# Altium integrated library Actel SmartFusion FPGA.IntLib: 379 symbols (part 1 of 2)
Pins are listed as number, name and electrical type; pins without a type are passive.

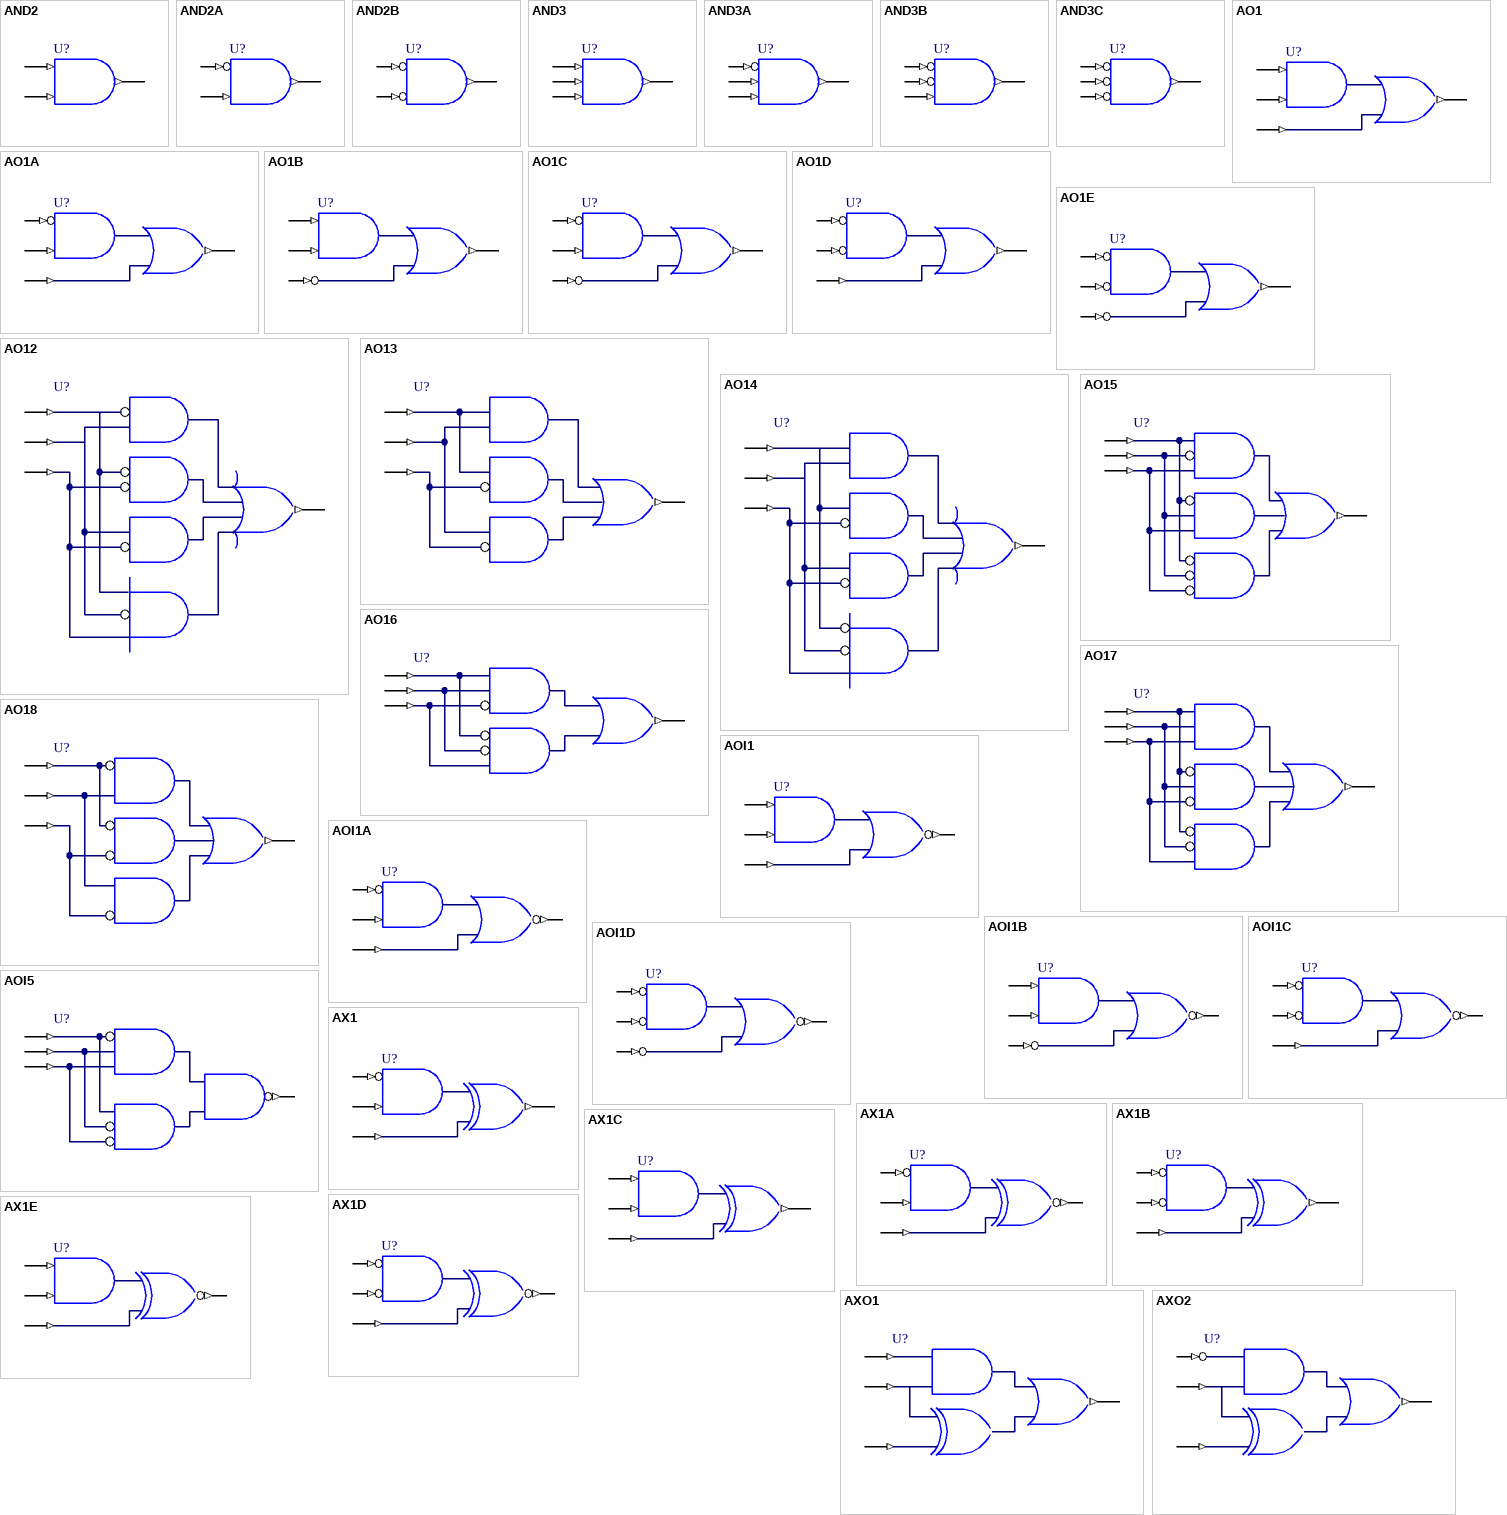
[diagram p0: symbols AND2 to AXO2]

## AND2
designator U?
2 Input AND; FPGAVendor: Actel; Published: 25-Oct-2005; Publisher: Altium Limited; HelpURL: http://www.actel.com/documents/pa3_libguide_ug.pdf
pins: A (in), B (in), Y (out)

## AND2A
designator U?
2 Input AND with Active Low A Input; FPGAVendor: Actel; Published: 25-Oct-2005; Publisher: Altium Limited; HelpURL: http://www.actel.com/documents/pa3_libguide_ug.pdf
pins: A (in), B (in), Y (out)

## AND2B
designator U?
2 Input AND with Active Low Inputs; FPGAVendor: Actel; Published: 25-Oct-2005; Publisher: Altium Limited; HelpURL: http://www.actel.com/documents/pa3_libguide_ug.pdf
pins: A (in), B (in), Y (out)

## AND3
designator U?
3 Input AND; FPGAVendor: Actel; Published: 25-Oct-2005; Publisher: Altium Limited; HelpURL: http://www.actel.com/documents/pa3_libguide_ug.pdf
pins: A (in), B (in), C (in), Y (out)

## AND3A
designator U?
3 Input AND with Active Low A Input; FPGAVendor: Actel; Published: 25-Oct-2005; Publisher: Altium Limited; HelpURL: http://www.actel.com/documents/pa3_libguide_ug.pdf
pins: A (in), B (in), C (in), Y (out)

## AND3B
designator U?
3 Input AND with Active Low A and B Input; FPGAVendor: Actel; Published: 25-Oct-2005; Publisher: Altium Limited; HelpURL: http://www.actel.com/documents/pa3_libguide_ug.pdf
pins: A (in), B (in), C (in), Y (out)

## AND3C
designator U?
3-Input AND with active Low Inputs; FPGAVendor: Actel; Published: 25-Oct-2005; Publisher: Altium Limited; HelpURL: http://www.actel.com/documents/pa3_libguide_ug.pdf
pins: A (in), B (in), C (in), Y (out)

## AO1
designator U?
3 Input AND-OR; FPGAVendor: Actel; Published: 25-Oct-2005; Publisher: Altium Limited; HelpURL: http://www.actel.com/documents/pa3_libguide_ug.pdf
pins: A (in), B (in), C (in), Y (out)

## AO1A
designator U?
3-Input AND-OR with active Low A-Input; FPGAVendor: Actel; Published: 25-Oct-2005; Publisher: Altium Limited; HelpURL: http://www.actel.com/documents/pa3_libguide_ug.pdf
pins: A (in), B (in), C (in), Y (out)

## AO1B
designator U?
3-Input AND-OR with active Low C-Input; FPGAVendor: Actel; Published: 25-Oct-2005; Publisher: Altium Limited; HelpURL: http://www.actel.com/documents/pa3_libguide_ug.pdf
pins: A (in), B (in), C (in), Y (out)

## AO1C
designator U?
3-Input AND-OR with active Low A- and C-Inputs; FPGAVendor: Actel; Published: 25-Oct-2005; Publisher: Altium Limited; HelpURL: http://www.actel.com/documents/pa3_libguide_ug.pdf
pins: A (in), B (in), C (in), Y (out)

## AO1D
designator U?
3-Input AND-OR with active Low A- and B-Inputs; FPGAVendor: Actel; Published: 25-Oct-2005; Publisher: Altium Limited; HelpURL: http://www.actel.com/documents/pa3_libguide_ug.pdf
pins: A (in), B (in), C (in), Y (out)

## AO1E
designator U?
3-Input AND-OR with active Low Inputs; FPGAVendor: Actel; Published: 25-Oct-2005; Publisher: Altium Limited; HelpURL: http://www.actel.com/documents/pa3_libguide_ug.pdf
pins: A (in), B (in), C (in), Y (out)

## AO12
designator U?
3-Input AND-OR; FPGAVendor: Actel; Published: 25-Oct-2005; Publisher: Altium Limited; HelpURL: http://www.actel.com/documents/pa3_libguide_ug.pdf
pins: A (in), B (in), C (in), Y (out)

## AO13
designator U?
3-Input AND-OR; FPGAVendor: Actel; Published: 25-Oct-2005; Publisher: Altium Limited; HelpURL: http://www.actel.com/documents/pa3_libguide_ug.pdf
pins: A (in), B (in), C (in), Y (out)

## AO14
designator U?
3-Input AND-OR; FPGAVendor: Actel; Published: 25-Oct-2005; Publisher: Altium Limited; HelpURL: http://www.actel.com/documents/pa3_libguide_ug.pdf
pins: A (in), B (in), C (in), Y (out)

## AO15
designator U?
3-Input AND-OR; FPGAVendor: Actel; Published: 25-Oct-2005; Publisher: Altium Limited; HelpURL: http://www.actel.com/documents/pa3_libguide_ug.pdf
pins: A (in), B (in), C (in), Y (out)

## AO16
designator U?
3-Input AND-OR; FPGAVendor: Actel; Published: 25-Oct-2005; Publisher: Altium Limited; HelpURL: http://www.actel.com/documents/pa3_libguide_ug.pdf
pins: A (in), B (in), C (in), Y (out)

## AO17
designator U?
3-Input AND-OR; FPGAVendor: Actel; Published: 25-Oct-2005; Publisher: Altium Limited; HelpURL: http://www.actel.com/documents/pa3_libguide_ug.pdf
pins: A (in), B (in), C (in), Y (out)

## AO18
designator U?
3-Input AND-OR; FPGAVendor: Actel; Published: 25-Oct-2005; Publisher: Altium Limited; HelpURL: http://www.actel.com/documents/pa3_libguide_ug.pdf
pins: A (in), B (in), C (in), Y (out)

## AOI1
designator U?
3-Input AND-OR-INVERT; FPGAVendor: Actel; Published: 25-Oct-2005; Publisher: Altium Limited; HelpURL: http://www.actel.com/documents/pa3_libguide_ug.pdf
pins: A (in), B (in), C (in), Y (out)

## AOI1A
designator U?
3-Input AND-OR-INVERT with active Low A-Input; FPGAVendor: Actel; Published: 25-Oct-2005; Publisher: Altium Limited; HelpURL: http://www.actel.com/documents/pa3_libguide_ug.pdf
pins: A (in), B (in), C (in), Y (out)

## AOI1B
designator U?
3-Input AND-OR-INVERT with active Low C-Input; FPGAVendor: Actel; Published: 25-Oct-2005; Publisher: Altium Limited; HelpURL: http://www.actel.com/documents/pa3_libguide_ug.pdf
pins: A (in), B (in), C (in), Y (out)

## AOI1C
designator U?
3 Input AND-OR-INVERT with active Low A- and B-Inputs; FPGAVendor: Actel; Published: 25-Oct-2005; Publisher: Altium Limited; HelpURL: http://www.actel.com/documents/pa3_libguide_ug.pdf
pins: A (in), B (in), C (in), Y (out)

## AOI1D
designator U?
3-Input AND-OR-INVERT with active Low Inputs; FPGAVendor: Actel; Published: 25-Oct-2005; Publisher: Altium Limited; HelpURL: http://www.actel.com/documents/pa3_libguide_ug.pdf
pins: A (in), B (in), C (in), Y (out)

## AOI5
designator U?
3-Input AND-OR-INVERT; FPGAVendor: Actel; Published: 25-Oct-2005; Publisher: Altium Limited; HelpURL: http://www.actel.com/documents/pa3_libguide_ug.pdf
pins: A (in), B (in), C (in), Y (out)

## AX1
designator U?
3-Input AND-XOR with active low A-Input; FPGAVendor: Actel; Published: 25-Oct-2005; Publisher: Altium Limited; HelpURL: http://www.actel.com/documents/pa3_libguide_ug.pdf
pins: A (in), B (in), C (in), Y (out)

## AX1A
designator U?
3-Input AND-XOR-INVERT with active low A-Input; FPGAVendor: Actel; Published: 25-Oct-2005; Publisher: Altium Limited; HelpURL: http://www.actel.com/documents/pa3_libguide_ug.pdf
pins: A (in), B (in), C (in), Y (out)

## AX1B
designator U?
3-Input AND-XOR with active low A- and B-Inputs; FPGAVendor: Actel; Published: 25-Oct-2005; Publisher: Altium Limited; HelpURL: http://www.actel.com/documents/pa3_libguide_ug.pdf
pins: A (in), B (in), C (in), Y (out)

## AX1C
designator U?
3-Input AND-XOR; FPGAVendor: Actel; Published: 25-Oct-2005; Publisher: Altium Limited; HelpURL: http://www.actel.com/documents/pa3_libguide_ug.pdf
pins: A (in), B (in), C (in), Y (out)

## AX1D
designator U?
3-Input AND-XNOR; FPGAVendor: Actel; Published: 25-Oct-2005; Publisher: Altium Limited; HelpURL: http://www.actel.com/documents/pa3_libguide_ug.pdf
pins: A (in), B (in), C (in), Y (out)

## AX1E
designator U?
3-Input AND-XNOR; FPGAVendor: Actel; Published: 25-Oct-2005; Publisher: Altium Limited; HelpURL: http://www.actel.com/documents/pa3_libguide_ug.pdf
pins: A (in), B (in), C (in), Y (out)

## AXO1
designator U?
3-Input Combinatorial Gate; FPGAVendor: Actel; Published: 25-Oct-2005; Publisher: Altium Limited; HelpURL: http://www.actel.com/documents/pa3_libguide_ug.pdf
pins: A (in), B (in), C (in), Y (out)

## AXO2
designator U?
3-Input Combinatorial Gate; FPGAVendor: Actel; Published: 25-Oct-2005; Publisher: Altium Limited; HelpURL: http://www.actel.com/documents/pa3_libguide_ug.pdf
pins: A (in), B (in), C (in), Y (out)

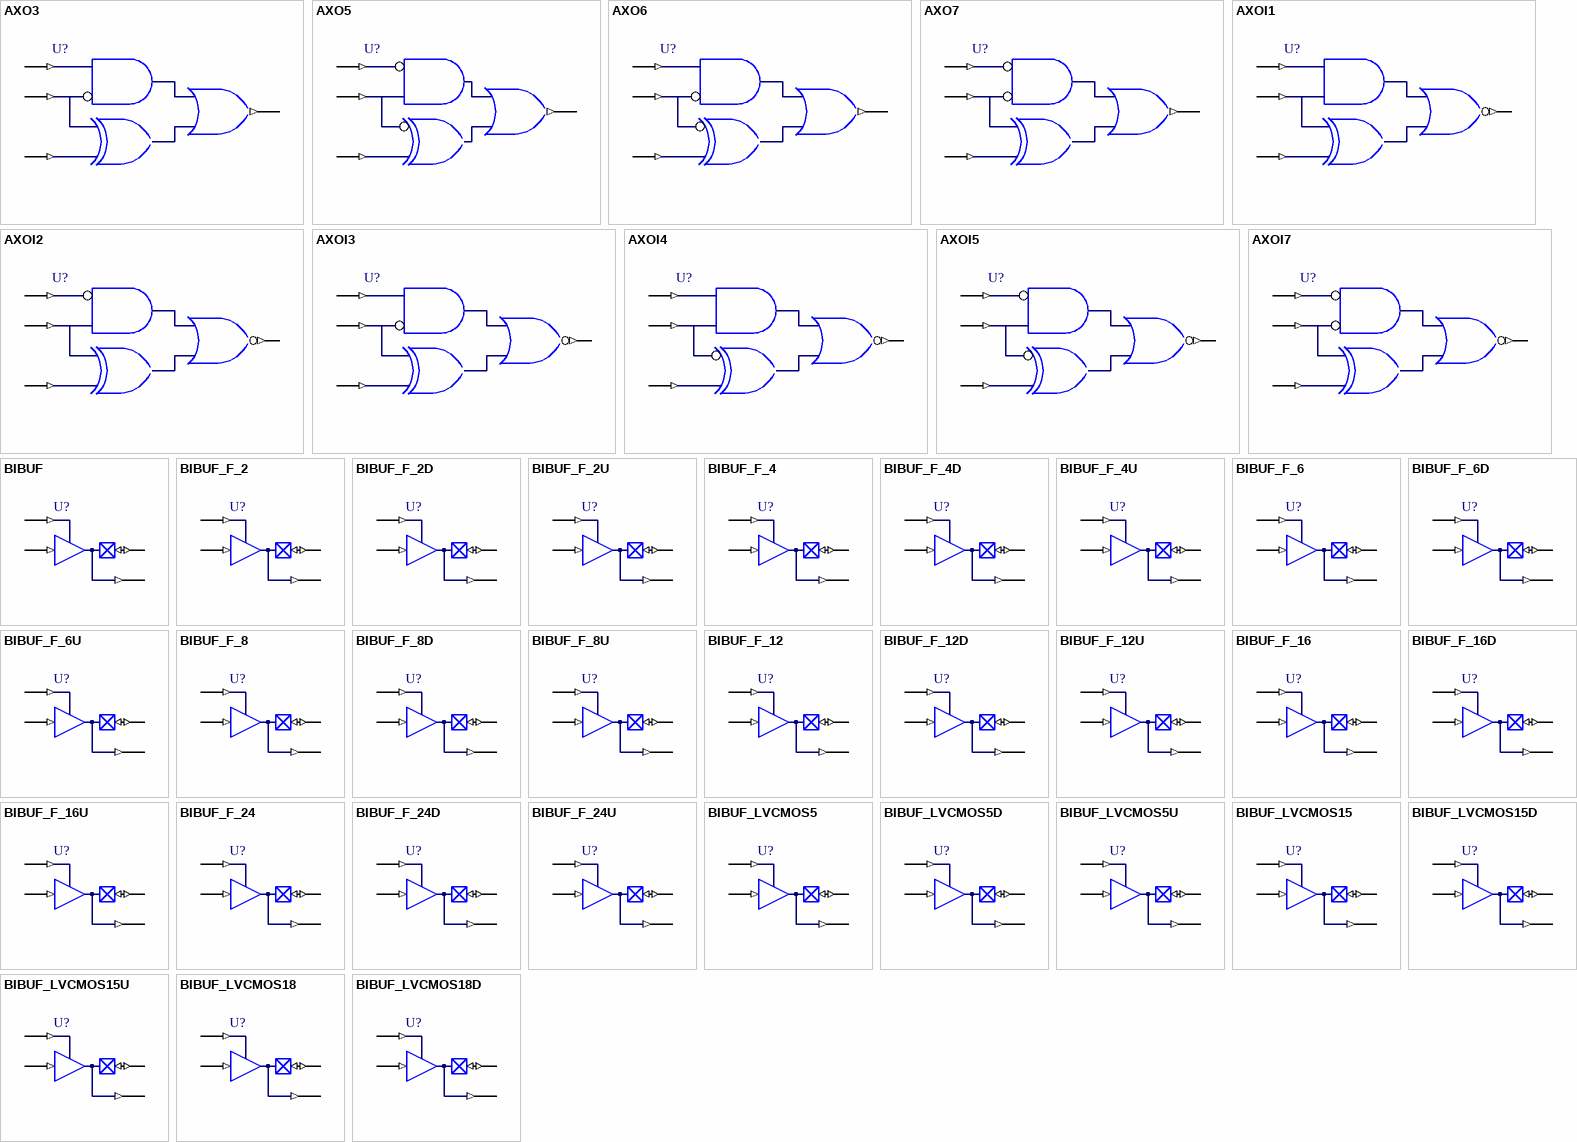
[diagram p1: symbols AXO3 to BIBUF_LVCMOS18D]

## AXO3
designator U?
3-Input Combinatorial Gate; FPGAVendor: Actel; Published: 25-Oct-2005; Publisher: Altium Limited; HelpURL: http://www.actel.com/documents/pa3_libguide_ug.pdf
pins: A (in), B (in), C (in), Y (out)

## AXO5
designator U?
3-Input Combinatorial Gate; FPGAVendor: Actel; Published: 25-Oct-2005; Publisher: Altium Limited; HelpURL: http://www.actel.com/documents/pa3_libguide_ug.pdf
pins: A (in), B (in), C (in), Y (out)

## AXO6
designator U?
3-Input Combinatorial Gate; FPGAVendor: Actel; Published: 25-Oct-2005; Publisher: Altium Limited; HelpURL: http://www.actel.com/documents/pa3_libguide_ug.pdf
pins: A (in), B (in), C (in), Y (out)

## AXO7
designator U?
3-Input Combinatorial Gate; FPGAVendor: Actel; Published: 25-Oct-2005; Publisher: Altium Limited; HelpURL: http://www.actel.com/documents/pa3_libguide_ug.pdf
pins: A (in), B (in), C (in), Y (out)

## AXOI1
designator U?
3-Input Combinatorial Gate; FPGAVendor: Actel; Published: 25-Oct-2005; Publisher: Altium Limited; HelpURL: http://www.actel.com/documents/pa3_libguide_ug.pdf
pins: A (in), B (in), C (in), Y (out)

## AXOI2
designator U?
3-Input Combinatorial Gate; FPGAVendor: Actel; Published: 25-Oct-2005; Publisher: Altium Limited; HelpURL: http://www.actel.com/documents/pa3_libguide_ug.pdf
pins: A (in), B (in), C (in), Y (out)

## AXOI3
designator U?
3-Input Combinatorial Gate; FPGAVendor: Actel; Published: 25-Oct-2005; Publisher: Altium Limited; HelpURL: http://www.actel.com/documents/pa3_libguide_ug.pdf
pins: A (in), B (in), C (in), Y (out)

## AXOI4
designator U?
3-Input Combinatorial Gate; FPGAVendor: Actel; Published: 25-Oct-2005; Publisher: Altium Limited; HelpURL: http://www.actel.com/documents/pa3_libguide_ug.pdf
pins: A (in), B (in), C (in), Y (out)

## AXOI5
designator U?
3-Input Combinatorial Gate; FPGAVendor: Actel; Published: 25-Oct-2005; Publisher: Altium Limited; HelpURL: http://www.actel.com/documents/pa3_libguide_ug.pdf
pins: A (in), B (in), C (in), Y (out)

## AXOI7
designator U?
3-Input Combinatorial Gate; FPGAVendor: Actel; Published: 25-Oct-2005; Publisher: Altium Limited; HelpURL: http://www.actel.com/documents/pa3_libguide_ug.pdf
pins: A (in), B (in), C (in), Y (out)

## BIBUF
designator U?
Bidirectional Buffer, High Slew (with Hidden Buffer at Y pin); FPGAVendor: Actel; Published: 25-Oct-2005; Publisher: Altium Limited; HelpURL: http://www.actel.com/documents/pa3_libguide_ug.pdf
pins: D (in), E (in), PAD (io), Y (out)

## BIBUF_F_2
designator U?
Bi-directional buffer with high slew; FPGAVendor: Actel; Published: 25-Oct-2005; Publisher: Altium Limited; HelpURL: http://www.actel.com/documents/pa3_libguide_ug.pdf
pins: D (in), E (in), PAD (io), Y (out)

## BIBUF_F_2D
designator U?
Bi-directional buffer with low slew and pull-down resistor; FPGAVendor: Actel; Published: 25-Oct-2005; Publisher: Altium Limited; HelpURL: http://www.actel.com/documents/pa3_libguide_ug.pdf
pins: D (in), E (in), PAD (io), Y (out)

## BIBUF_F_2U
designator U?
Bi-directional buffer with low slew and pull-up resistor; FPGAVendor: Actel; Published: 25-Oct-2005; Publisher: Altium Limited; HelpURL: http://www.actel.com/documents/pa3_libguide_ug.pdf
pins: D (in), E (in), PAD (io), Y (out)

## BIBUF_F_4
designator U?
Bi-directional buffer with low slew; FPGAVendor: Actel; Published: 25-Oct-2005; Publisher: Altium Limited; HelpURL: http://www.actel.com/documents/pa3_libguide_ug.pdf
pins: D (in), E (in), PAD (io), Y (out)

## BIBUF_F_4D
designator U?
Bi-directional buffer with low slew and pull-down resistor; FPGAVendor: Actel; Published: 25-Oct-2005; Publisher: Altium Limited; HelpURL: http://www.actel.com/documents/pa3_libguide_ug.pdf
pins: D (in), E (in), PAD (io), Y (out)

## BIBUF_F_4U
designator U?
Bi-directional buffer with low slew and pull-up resistor; FPGAVendor: Actel; Published: 25-Oct-2005; Publisher: Altium Limited; HelpURL: http://www.actel.com/documents/pa3_libguide_ug.pdf
pins: D (in), E (in), PAD (io), Y (out)

## BIBUF_F_6
designator U?
Bi-directional buffer with low slew; FPGAVendor: Actel; Published: 25-Oct-2005; Publisher: Altium Limited; HelpURL: http://www.actel.com/documents/pa3_libguide_ug.pdf
pins: D (in), E (in), PAD (io), Y (out)

## BIBUF_F_6D
designator U?
Bi-directional buffer with low slew and pull-down resistor; FPGAVendor: Actel; Published: 25-Oct-2005; Publisher: Altium Limited; HelpURL: http://www.actel.com/documents/pa3_libguide_ug.pdf
pins: D (in), E (in), PAD (io), Y (out)

## BIBUF_F_6U
designator U?
Bi-directional buffer with low slew and pull-up resistor; FPGAVendor: Actel; Published: 25-Oct-2005; Publisher: Altium Limited; HelpURL: http://www.actel.com/documents/pa3_libguide_ug.pdf
pins: D (in), E (in), PAD (io), Y (out)

## BIBUF_F_8
designator U?
Bi-directional buffer with low slew; FPGAVendor: Actel; Published: 25-Oct-2005; Publisher: Altium Limited; HelpURL: http://www.actel.com/documents/pa3_libguide_ug.pdf
pins: D (in), E (in), PAD (io), Y (out)

## BIBUF_F_8D
designator U?
Bi-directional buffer with low slew and pull-down resistor; FPGAVendor: Actel; Published: 25-Oct-2005; Publisher: Altium Limited; HelpURL: http://www.actel.com/documents/pa3_libguide_ug.pdf
pins: D (in), E (in), PAD (io), Y (out)

## BIBUF_F_8U
designator U?
Bi-directional buffer with low slew and pull-up resistor; FPGAVendor: Actel; Published: 25-Oct-2005; Publisher: Altium Limited; HelpURL: http://www.actel.com/documents/pa3_libguide_ug.pdf
pins: D (in), E (in), PAD (io), Y (out)

## BIBUF_F_12
designator U?
Bi-directional buffer with high slew; FPGAVendor: Actel; Published: 25-Oct-2005; Publisher: Altium Limited; HelpURL: http://www.actel.com/documents/pa3_libguide_ug.pdf
pins: D (in), E (in), PAD (io), Y (out)

## BIBUF_F_12D
designator U?
Bi-directional buffer with high slew and pull-down resistor; FPGAVendor: Actel; Published: 25-Oct-2005; Publisher: Altium Limited; HelpURL: http://www.actel.com/documents/pa3_libguide_ug.pdf
pins: D (in), E (in), PAD (io), Y (out)

## BIBUF_F_12U
designator U?
Bi-directional buffer with high slew and pull-up resistor; FPGAVendor: Actel; Published: 25-Oct-2005; Publisher: Altium Limited; HelpURL: http://www.actel.com/documents/pa3_libguide_ug.pdf
pins: D (in), E (in), PAD (io), Y (out)

## BIBUF_F_16
designator U?
Bi-directional buffer with high slew; FPGAVendor: Actel; Published: 25-Oct-2005; Publisher: Altium Limited; HelpURL: http://www.actel.com/documents/pa3_libguide_ug.pdf
pins: D (in), E (in), PAD (io), Y (out)

## BIBUF_F_16D
designator U?
Bi-directional buffer with high slew and pull-down resistor; FPGAVendor: Actel; Published: 25-Oct-2005; Publisher: Altium Limited; HelpURL: http://www.actel.com/documents/pa3_libguide_ug.pdf
pins: D (in), E (in), PAD (io), Y (out)

## BIBUF_F_16U
designator U?
Bi-directional buffer with high slew and pull-up resistor; FPGAVendor: Actel; Published: 25-Oct-2005; Publisher: Altium Limited; HelpURL: http://www.actel.com/documents/pa3_libguide_ug.pdf
pins: D (in), E (in), PAD (io), Y (out)

## BIBUF_F_24
designator U?
Bi-directional buffer with high slew; FPGAVendor: Actel; Published: 25-Oct-2005; Publisher: Altium Limited; HelpURL: http://www.actel.com/documents/pa3_libguide_ug.pdf
pins: D (in), E (in), PAD (io), Y (out)

## BIBUF_F_24D
designator U?
Bi-directional buffer with high slew and pull-down resistor; FPGAVendor: Actel; Published: 25-Oct-2005; Publisher: Altium Limited; HelpURL: http://www.actel.com/documents/pa3_libguide_ug.pdf
pins: D (in), E (in), PAD (io), Y (out)

## BIBUF_F_24U
designator U?
Bi-directional buffer with high slew and pull-up resistor; FPGAVendor: Actel; Published: 25-Oct-2005; Publisher: Altium Limited; HelpURL: http://www.actel.com/documents/pa3_libguide_ug.pdf
pins: D (in), E (in), PAD (io), Y (out)

## BIBUF_LVCMOS5
designator U?
Bidirectional Buffer, High Slew (with Hidden Buffer at Y pin); FPGAVendor: Actel; Published: 25-Oct-2005; Publisher: Altium Limited; HelpURL: http://www.actel.com/documents/pa3_libguide_ug.pdf
pins: D (in), E (in), PAD (io), Y (out)

## BIBUF_LVCMOS5D
designator U?
Bidirectional Buffer, High Slew (with Hidden Buffer at Y pin); FPGAVendor: Actel; Published: 25-Oct-2005; Publisher: Altium Limited; HelpURL: http://www.actel.com/documents/pa3_libguide_ug.pdf
pins: D (in), E (in), PAD (io), Y (out)

## BIBUF_LVCMOS5U
designator U?
Bidirectional Buffer, High Slew (with Hidden Buffer at Y pin); FPGAVendor: Actel; Published: 25-Oct-2005; Publisher: Altium Limited; HelpURL: http://www.actel.com/documents/pa3_libguide_ug.pdf
pins: D (in), E (in), PAD (io), Y (out)

## BIBUF_LVCMOS15
designator U?
LVCMOS Bi-directional buffer with 1.5 CMOS voltage level; FPGAVendor: Actel; Published: 25-Oct-2005; Publisher: Altium Limited; HelpURL: http://www.actel.com/documents/pa3_libguide_ug.pdf
pins: D (in), E (in), PAD (io), Y (out)

## BIBUF_LVCMOS15D
designator U?
LVCMOS Bi-directional buffer with 1.5 CMOS voltage level, pull-down resistor; FPGAVendor: Actel; Published: 25-Oct-2005; Publisher: Altium Limited; HelpURL: http://www.actel.com/documents/pa3_libguide_ug.pdf
pins: D (in), E (in), PAD (io), Y (out)

## BIBUF_LVCMOS15U
designator U?
LVCMOS Bi-directional buffer with 1.5 CMOS voltage level, pull-up resistor; FPGAVendor: Actel; Published: 25-Oct-2005; Publisher: Altium Limited; HelpURL: http://www.actel.com/documents/pa3_libguide_ug.pdf
pins: D (in), E (in), PAD (io), Y (out)

## BIBUF_LVCMOS18
designator U?
LVCMOS Bi-directional buffer with 1.8 CMOS voltage level; FPGAVendor: Actel; Published: 25-Oct-2005; Publisher: Altium Limited; HelpURL: http://www.actel.com/documents/pa3_libguide_ug.pdf
pins: D (in), E (in), PAD (io), Y (out)

## BIBUF_LVCMOS18D
designator U?
LVCMOS Bi-directional buffer with 1.8 CMOS voltage level, pull-down resistor; FPGAVendor: Actel; Published: 25-Oct-2005; Publisher: Altium Limited; HelpURL: http://www.actel.com/documents/pa3_libguide_ug.pdf
pins: D (in), E (in), PAD (io), Y (out)

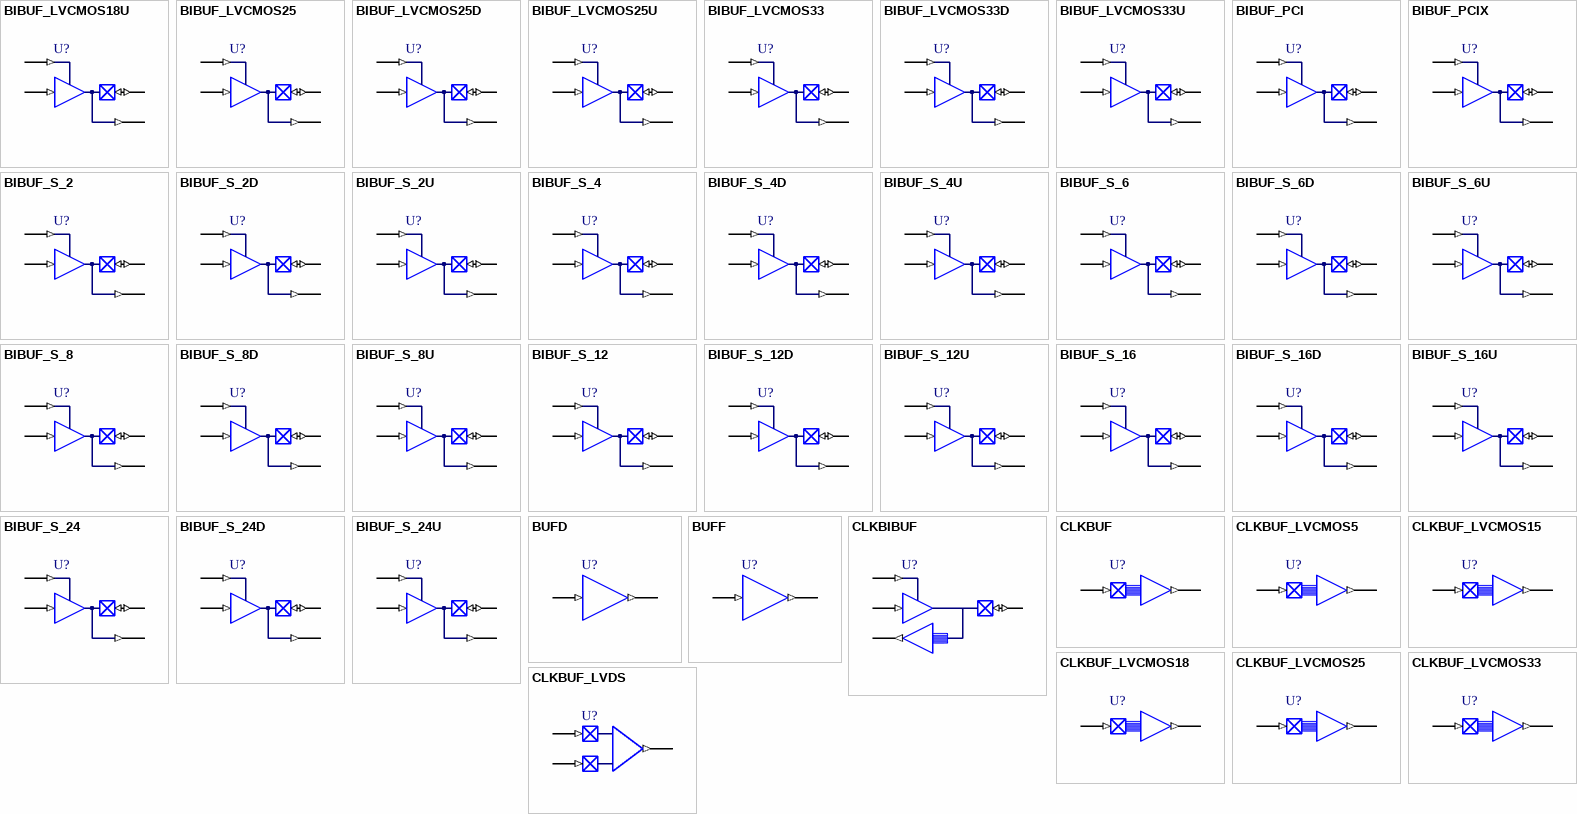
[diagram p2: symbols BIBUF_LVCMOS18U to CLKBUF_LVDS]

## BIBUF_LVCMOS18U
designator U?
LVCMOS Bi-directional buffer with 1.8 CMOS voltage level, pull-up resistor; FPGAVendor: Actel; Published: 25-Oct-2005; Publisher: Altium Limited; HelpURL: http://www.actel.com/documents/pa3_libguide_ug.pdf
pins: D (in), E (in), PAD (io), Y (out)

## BIBUF_LVCMOS25
designator U?
LVCMOS Bi-directional buffer with 2.5 CMOS voltage level; FPGAVendor: Actel; Published: 25-Oct-2005; Publisher: Altium Limited; HelpURL: http://www.actel.com/documents/pa3_libguide_ug.pdf
pins: D (in), E (in), PAD (io), Y (out)

## BIBUF_LVCMOS25D
designator U?
LVCMOS Bi-directional buffer with 2.5 CMOS voltage level, pull-down resistor; FPGAVendor: Actel; Published: 25-Oct-2005; Publisher: Altium Limited; HelpURL: http://www.actel.com/documents/pa3_libguide_ug.pdf
pins: D (in), E (in), PAD (io), Y (out)

## BIBUF_LVCMOS25U
designator U?
LVCMOS Bi-directional buffer with 2.5 CMOS voltage level, pull-up resistor; FPGAVendor: Actel; Published: 25-Oct-2005; Publisher: Altium Limited; HelpURL: http://www.actel.com/documents/pa3_libguide_ug.pdf
pins: D (in), E (in), PAD (io), Y (out)

## BIBUF_LVCMOS33
designator U?
LVCMOS bi-directional buffer with 3.3 CMOS voltage level; FPGAVendor: Actel; Published: 25-Oct-2005; Publisher: Altium Limited; HelpURL: http://www.actel.com/documents/pa3_libguide_ug.pdf
pins: D (in), E (in), PAD (io), Y (out)

## BIBUF_LVCMOS33D
designator U?
LVCMOS bi-directional buffer with 3.3 CMOS voltage level, pull-down resistor; FPGAVendor: Actel; Published: 25-Oct-2005; Publisher: Altium Limited; HelpURL: http://www.actel.com/documents/pa3_libguide_ug.pdf
pins: D (in), E (in), PAD (io), Y (out)

## BIBUF_LVCMOS33U
designator U?
LVCMOS bi-directional buffer with 3.3 CMOS voltage level, pull-up resistor; FPGAVendor: Actel; Published: 25-Oct-2005; Publisher: Altium Limited; HelpURL: http://www.actel.com/documents/pa3_libguide_ug.pdf
pins: D (in), E (in), PAD (io), Y (out)

## BIBUF_PCI
designator U?
PCI Bi-directional buffer; FPGAVendor: Actel; Published: 25-Oct-2005; Publisher: Altium Limited; HelpURL: http://www.actel.com/documents/pa3_libguide_ug.pdf
pins: D (in), E (in), PAD (io), Y (out)

## BIBUF_PCIX
designator U?
PCIX Bi-directional buffer; FPGAVendor: Actel; Published: 25-Oct-2005; Publisher: Altium Limited; HelpURL: http://www.actel.com/documents/pa3_libguide_ug.pdf
pins: D (in), E (in), PAD (io), Y (out)

## BIBUF_S_2
designator U?
Bi-directional buffer with low slew; FPGAVendor: Actel; Published: 25-Oct-2005; Publisher: Altium Limited; HelpURL: http://www.actel.com/documents/pa3_libguide_ug.pdf
pins: D (in), E (in), PAD (io), Y (out)

## BIBUF_S_2D
designator U?
Bi-directional buffer with low slew and pull-down resistor; FPGAVendor: Actel; Published: 25-Oct-2005; Publisher: Altium Limited; HelpURL: http://www.actel.com/documents/pa3_libguide_ug.pdf
pins: D (in), E (in), PAD (io), Y (out)

## BIBUF_S_2U
designator U?
Bi-directional buffer with low slew and pull-up resistor; FPGAVendor: Actel; Published: 25-Oct-2005; Publisher: Altium Limited; HelpURL: http://www.actel.com/documents/pa3_libguide_ug.pdf
pins: D (in), E (in), PAD (io), Y (out)

## BIBUF_S_4
designator U?
Bi-directional buffer with low slew; FPGAVendor: Actel; Published: 25-Oct-2005; Publisher: Altium Limited; HelpURL: http://www.actel.com/documents/pa3_libguide_ug.pdf
pins: D (in), E (in), PAD (io), Y (out)

## BIBUF_S_4D
designator U?
Bi-directional buffer with low slew and pull-down resistor; FPGAVendor: Actel; Published: 25-Oct-2005; Publisher: Altium Limited; HelpURL: http://www.actel.com/documents/pa3_libguide_ug.pdf
pins: D (in), E (in), PAD (io), Y (out)

## BIBUF_S_4U
designator U?
Bi-directional buffer with low slew and pull-up resistor; FPGAVendor: Actel; Published: 25-Oct-2005; Publisher: Altium Limited; HelpURL: http://www.actel.com/documents/pa3_libguide_ug.pdf
pins: D (in), E (in), PAD (io), Y (out)

## BIBUF_S_6
designator U?
Bi-directional buffer with low slew; FPGAVendor: Actel; Published: 25-Oct-2005; Publisher: Altium Limited; HelpURL: http://www.actel.com/documents/pa3_libguide_ug.pdf
pins: D (in), E (in), PAD (io), Y (out)

## BIBUF_S_6D
designator U?
Bi-directional buffer with low slew and pull-down resistor; FPGAVendor: Actel; Published: 25-Oct-2005; Publisher: Altium Limited; HelpURL: http://www.actel.com/documents/pa3_libguide_ug.pdf
pins: D (in), E (in), PAD (io), Y (out)

## BIBUF_S_6U
designator U?
Bi-directional buffer with low slew and pull-up resistor; FPGAVendor: Actel; Published: 25-Oct-2005; Publisher: Altium Limited; HelpURL: http://www.actel.com/documents/pa3_libguide_ug.pdf
pins: D (in), E (in), PAD (io), Y (out)

## BIBUF_S_8
designator U?
Bi-directional buffer with low slew; FPGAVendor: Actel; Published: 25-Oct-2005; Publisher: Altium Limited; HelpURL: http://www.actel.com/documents/pa3_libguide_ug.pdf
pins: D (in), E (in), PAD (io), Y (out)

## BIBUF_S_8D
designator U?
Bi-directional buffer with low slew and pull-down resistor; FPGAVendor: Actel; Published: 25-Oct-2005; Publisher: Altium Limited; HelpURL: http://www.actel.com/documents/pa3_libguide_ug.pdf
pins: D (in), E (in), PAD (io), Y (out)

## BIBUF_S_8U
designator U?
Bi-directional buffer with low slew and pull-up resistor; FPGAVendor: Actel; Published: 25-Oct-2005; Publisher: Altium Limited; HelpURL: http://www.actel.com/documents/pa3_libguide_ug.pdf
pins: D (in), E (in), PAD (io), Y (out)

## BIBUF_S_12
designator U?
Bi-directional buffer with low slew; FPGAVendor: Actel; Published: 25-Oct-2005; Publisher: Altium Limited; HelpURL: http://www.actel.com/documents/pa3_libguide_ug.pdf
pins: D (in), E (in), PAD (io), Y (out)

## BIBUF_S_12D
designator U?
Bi-directional buffer with low slew and pull-down resistor; FPGAVendor: Actel; Published: 25-Oct-2005; Publisher: Altium Limited; HelpURL: http://www.actel.com/documents/pa3_libguide_ug.pdf
pins: D (in), E (in), PAD (io), Y (out)

## BIBUF_S_12U
designator U?
Bi-directional buffer with low slew and pull-up resistor; FPGAVendor: Actel; Published: 25-Oct-2005; Publisher: Altium Limited; HelpURL: http://www.actel.com/documents/pa3_libguide_ug.pdf
pins: D (in), E (in), PAD (io), Y (out)

## BIBUF_S_16
designator U?
Bi-directional buffer with low slew; FPGAVendor: Actel; Published: 25-Oct-2005; Publisher: Altium Limited; HelpURL: http://www.actel.com/documents/pa3_libguide_ug.pdf
pins: D (in), E (in), PAD (io), Y (out)

## BIBUF_S_16D
designator U?
Bi-directional buffer with low slew and pull-down resistor; FPGAVendor: Actel; Published: 25-Oct-2005; Publisher: Altium Limited; HelpURL: http://www.actel.com/documents/pa3_libguide_ug.pdf
pins: D (in), E (in), PAD (io), Y (out)

## BIBUF_S_16U
designator U?
Bi-directional buffer with low slew and pull-up resistor; FPGAVendor: Actel; Published: 25-Oct-2005; Publisher: Altium Limited; HelpURL: http://www.actel.com/documents/pa3_libguide_ug.pdf
pins: D (in), E (in), PAD (io), Y (out)

## BIBUF_S_24
designator U?
Bi-directional buffer with low slew; FPGAVendor: Actel; Published: 25-Oct-2005; Publisher: Altium Limited; HelpURL: http://www.actel.com/documents/pa3_libguide_ug.pdf
pins: D (in), E (in), PAD (io), Y (out)

## BIBUF_S_24D
designator U?
Bi-directional buffer with low slew and pull-down resistor; FPGAVendor: Actel; Published: 25-Oct-2005; Publisher: Altium Limited; HelpURL: http://www.actel.com/documents/pa3_libguide_ug.pdf
pins: D (in), E (in), PAD (io), Y (out)

## BIBUF_S_24U
designator U?
Bi-directional buffer with low slew and pull-up resistor; FPGAVendor: Actel; Published: 25-Oct-2005; Publisher: Altium Limited; HelpURL: http://www.actel.com/documents/pa3_libguide_ug.pdf
pins: D (in), E (in), PAD (io), Y (out)

## BUFD
designator U?
Buffer; FPGAVendor: Actel; Published: 25-Oct-2005; Publisher: Altium Limited; HelpURL: http://www.actel.com/documents/pa3_libguide_ug.pdf
pins: A (in), Y (out)

## BUFF
designator U?
Buffer; FPGAVendor: Actel; Published: 25-Oct-2005; Publisher: Altium Limited; HelpURL: http://www.actel.com/documents/pa3_libguide_ug.pdf
pins: A (in), Y (out)

## CLKBIBUF
designator U?
Bidirectional with Input Dedicated to routed Clock Network; FPGAVendor: Actel; Published: 25-Oct-2005; Publisher: Altium Limited; HelpURL: http://www.actel.com/documents/pa3_libguide_ug.pdf
pins: D (in), E (in), PAD (io), Y (out)

## CLKBUF
designator U?
Input for Dedicated Routed Clock Network; FPGAVendor: Actel; Published: 25-Oct-2005; Publisher: Altium Limited; HelpURL: http://www.actel.com/documents/pa3_libguide_ug.pdf
pins: PAD (in), Y (out)

## CLKBUF_LVCMOS5
designator U?
Input for Dedicated Routed Clock Network; FPGAVendor: Actel; Published: 25-Oct-2005; Publisher: Altium Limited; HelpURL: http://www.actel.com/documents/pa3_libguide_ug.pdf
pins: PAD (in), Y (out)

## CLKBUF_LVCMOS15
designator U?
Input for Dedicated Routed Clock Network; FPGAVendor: Actel; Published: 25-Oct-2005; Publisher: Altium Limited; HelpURL: http://www.actel.com/documents/pa3_libguide_ug.pdf
pins: PAD (in), Y (out)

## CLKBUF_LVCMOS18
designator U?
Input for Dedicated Routed Clock Network; FPGAVendor: Actel; Published: 25-Oct-2005; Publisher: Altium Limited; HelpURL: http://www.actel.com/documents/pa3_libguide_ug.pdf
pins: PAD (in), Y (out)

## CLKBUF_LVCMOS25
designator U?
Input for Dedicated Routed Clock Network; FPGAVendor: Actel; Published: 25-Oct-2005; Publisher: Altium Limited; HelpURL: http://www.actel.com/documents/pa3_libguide_ug.pdf
pins: PAD (in), Y (out)

## CLKBUF_LVCMOS33
designator U?
Input for Dedicated Routed Clock Network; FPGAVendor: Actel; Published: 25-Oct-2005; Publisher: Altium Limited; HelpURL: http://www.actel.com/documents/pa3_libguide_ug.pdf
pins: PAD (in), Y (out)

## CLKBUF_LVDS
designator U?
Input for Dedicated Routed Clock Network; FPGAVendor: Actel; Published: 25-Oct-2005; Publisher: Altium Limited; HelpURL: http://www.actel.com/documents/pa3_libguide_ug.pdf
pins: PADN (in), PADP (in), Y (out)

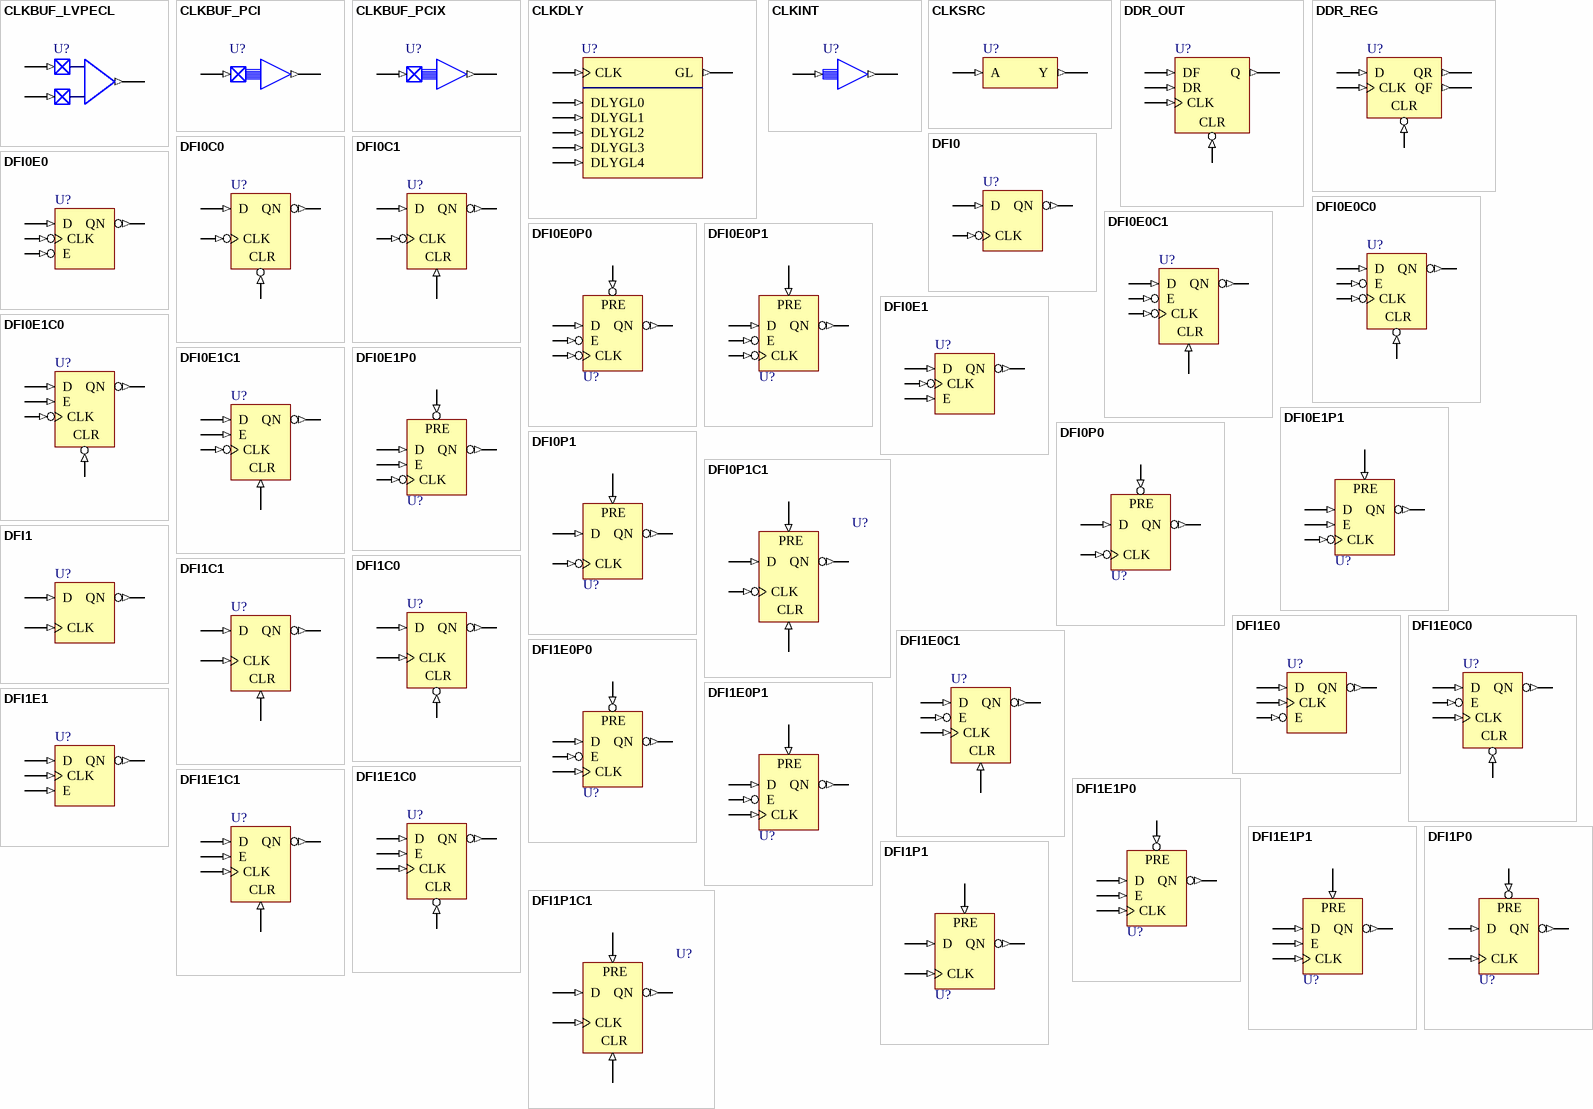
[diagram p3: symbols CLKBUF_LVPECL to DFI1P1C1]

## CLKBUF_LVPECL
designator U?
Input for Dedicated Routed Clock Network; FPGAVendor: Actel; Published: 25-Oct-2005; Publisher: Altium Limited; HelpURL: http://www.actel.com/documents/pa3_libguide_ug.pdf
pins: PADN (in), PADP (in), Y (out)

## CLKBUF_PCI
designator U?
Input for Dedicated Routed Clock Network; FPGAVendor: Actel; Published: 25-Oct-2005; Publisher: Altium Limited; HelpURL: http://www.actel.com/documents/pa3_libguide_ug.pdf
pins: PAD (in), Y (out)

## CLKBUF_PCIX
designator U?
Input for Dedicated Routed Clock Network; FPGAVendor: Actel; Published: 25-Oct-2005; Publisher: Altium Limited; HelpURL: http://www.actel.com/documents/pa3_libguide_ug.pdf
pins: PAD (in), Y (out)

## CLKDLY
designator U?
Static clock with delay.; FPGAVendor: Actel; Published: 25-Oct-2005; Publisher: Altium Limited; HelpURL: http://www.actel.com/documents/pa3_libguide_ug.pdf
pins: CLK (in), DLYGL0 (in), DLYGL1 (in), DLYGL2 (in), DLYGL3 (in), DLYGL4 (in), GL (out)

## CLKINT
designator U?
Internal Clock Interface; FPGAVendor: Actel; Published: 25-Oct-2005; Publisher: Altium Limited; HelpURL: http://www.actel.com/documents/pa3_libguide_ug.pdf
pins: A (in), Y (out)

## CLKSRC
designator U?
Clock buffer used to connect either the RCOSC or the XTLOSC to the core; FPGAVendor: Actel; Published: 7-Sep-2006; Publisher: Altium Limited; HelpURL: http://www.actel.com/documents/pa3_libguide_ug.pdf
pins: A (in), Y (out)

## DDR_OUT
designator U?
DDR (DDR) output; FPGAVendor: Actel; Published: 25-Oct-2005; Publisher: Altium Limited; HelpURL: http://www.actel.com/documents/pa3_libguide_ug.pdf
pins: CLK (in), CLR (in), DF (in), DR (in), Q (out)

## DDR_REG
designator U?
DDR (DDR) Register; FPGAVendor: Actel; Published: 25-Oct-2005; Publisher: Altium Limited; HelpURL: http://www.actel.com/documents/pa3_libguide_ug.pdf
pins: CLK (in), CLR (in), D (in), QF (out), QR (out)

## DFI0
designator U?
D-Type Flip-Flop with active low Clock and inverted Output; FPGAVendor: Actel; Published: 25-Oct-2005; Publisher: Altium Limited; HelpURL: http://www.actel.com/documents/pa3_libguide_ug.pdf
pins: CLK (in), D (in), QN (out)

## DFI0C0
designator U?
D-Type Flip-Flop with active low Clear, Clock and inverted Output; FPGAVendor: Actel; Published: 25-Oct-2005; Publisher: Altium Limited; HelpURL: http://www.actel.com/documents/pa3_libguide_ug.pdf
pins: CLK (in), CLR (in), D (in), QN (out)

## DFI0C1
designator U?
D-Type Flip-Flop with active high Clear, active low Clock and inverted Output; FPGAVendor: Actel; Published: 25-Oct-2005; Publisher: Altium Limited; HelpURL: http://www.actel.com/documents/pa3_libguide_ug.pdf
pins: CLK (in), CLR (in), D (in), QN (out)

## DFI0E0
designator U?
D-Type Flip-Flop with active low Enable and Clock and inverted output; FPGAVendor: Actel; Published: 25-Oct-2005; Publisher: Altium Limited; HelpURL: http://www.actel.com/documents/pa3_libguide_ug.pdf
pins: CLK (in), D (in), E (in), QN (out)

## DFI0E0C0
designator U?
D-Type Flip-Flop with active low Enable, Clear, Clock and inverted output; FPGAVendor: Actel; Published: 25-Oct-2005; Publisher: Altium Limited; HelpURL: http://www.actel.com/documents/pa3_libguide_ug.pdf
pins: CLK (in), CLR (in), D (in), E (in), QN (out)

## DFI0E0C1
designator U?
D-Type Flip-Flop with active low Enable, Clock, active high Clear, and inverted output; FPGAVendor: Actel; Published: 25-Oct-2005; Publisher: Altium Limited; HelpURL: http://www.actel.com/documents/pa3_libguide_ug.pdf
pins: CLK (in), CLR (in), D (in), E (in), QN (out)

## DFI0E0P0
designator U?
D-Type Flip-Flop with active low Enable, Clock, and Preset, and inverted output; FPGAVendor: Actel; Published: 25-Oct-2005; Publisher: Altium Limited; HelpURL: http://www.actel.com/documents/pa3_libguide_ug.pdf
pins: CLK (in), D (in), E (in), PRE (in), QN (out)

## DFI0E0P1
designator U?
D-Type Flip-Flop with active low Enable and Clock, active high Preset and inverted output; FPGAVendor: Actel; Published: 25-Oct-2005; Publisher: Altium Limited; HelpURL: http://www.actel.com/documents/pa3_libguide_ug.pdf
pins: CLK (in), D (in), E (in), PRE (in), QN (out)

## DFI0E1
designator U?
D-Type Flip-Flop, with Enable, and active low Clock and inverted ouput; FPGAVendor: Actel; Published: 25-Oct-2005; Publisher: Altium Limited; HelpURL: http://www.actel.com/documents/pa3_libguide_ug.pdf
pins: CLK (in), D (in), E (in), QN (out)

## DFI0E1C0
designator U?
D-Type Flip-Flop with Enable and active low Clear and Clock and inverted output; FPGAVendor: Actel; Published: 25-Oct-2005; Publisher: Altium Limited; HelpURL: http://www.actel.com/documents/pa3_libguide_ug.pdf
pins: CLK (in), CLR (in), D (in), E (in), QN (out)

## DFI0E1C1
designator U?
D-Type Flip-Flop with Enable and active high Clear and active low Clock and inverted output; FPGAVendor: Actel; Published: 25-Oct-2005; Publisher: Altium Limited; HelpURL: http://www.actel.com/documents/pa3_libguide_ug.pdf
pins: CLK (in), CLR (in), D (in), E (in), QN (out)

## DFI0E1P0
designator U?
D-Type Flip-Flop with active high Enable, active low Preset and Clock, and inverted output; FPGAVendor: Actel; Published: 25-Oct-2005; Publisher: Altium Limited; HelpURL: http://www.actel.com/documents/pa3_libguide_ug.pdf
pins: CLK (in), D (in), E (in), PRE (in), QN (out)

## DFI0E1P1
designator U?
D-Type Flip-Flop with active high Enable and Preset, active low Clock and inverted output; FPGAVendor: Actel; Published: 25-Oct-2005; Publisher: Altium Limited; HelpURL: http://www.actel.com/documents/pa3_libguide_ug.pdf
pins: CLK (in), D (in), E (in), PRE (in), QN (out)

## DFI0P0
designator U?
D-Type Flip-Flop with active low Preset, Clock and inverted Output; FPGAVendor: Actel; Published: 25-Oct-2005; Publisher: Altium Limited; HelpURL: http://www.actel.com/documents/pa3_libguide_ug.pdf
pins: CLK (in), D (in), PRE (in), QN (out)

## DFI0P1
designator U?
D-Type Flip-Flop with active high Preset, and active low Clock and inverted Output; FPGAVendor: Actel; Published: 25-Oct-2005; Publisher: Altium Limited; HelpURL: http://www.actel.com/documents/pa3_libguide_ug.pdf
pins: CLK (in), D (in), PRE (in), QN (out)

## DFI0P1C1
designator U?
Falling Edge Triggered D-Type Flip-Flop with Active High Preset and Clear and inverted Output; FPGAVendor: Actel; Published: 25-Oct-2005; Publisher: Altium Limited; HelpURL: http://www.actel.com/documents/pa3_libguide_ug.pdf
pins: CLK (in), CLR (in), D (in), PRE (in), QN (out)

## DFI1
designator U?
D-Type Flip-Flop with inverted Output; FPGAVendor: Actel; Published: 25-Oct-2005; Publisher: Altium Limited; HelpURL: http://www.actel.com/documents/pa3_libguide_ug.pdf
pins: CLK (in), D (in), QN (out)

## DFI1C0
designator U?
D-Type Flip-Flop with active low Clear and inverted Output; FPGAVendor: Actel; Published: 25-Oct-2005; Publisher: Altium Limited; HelpURL: http://www.actel.com/documents/pa3_libguide_ug.pdf
pins: CLK (in), CLR (in), D (in), QN (out)

## DFI1C1
designator U?
D-Type Flip-Flop with active high Clear and Clock; FPGAVendor: Actel; Published: 25-Oct-2005; Publisher: Altium Limited; HelpURL: http://www.actel.com/documents/pa3_libguide_ug.pdf
pins: CLK (in), CLR (in), D (in), QN (out)

## DFI1E0
designator U?
D-Type Flip-Flop with active low Enable and inverted output; FPGAVendor: Actel; Published: 25-Oct-2005; Publisher: Altium Limited; HelpURL: http://www.actel.com/documents/pa3_libguide_ug.pdf
pins: CLK (in), D (in), E (in), QN (out)

## DFI1E0C0
designator U?
D-Type Flip-Flop with Active Low Enable and Clear and inverted output; FPGAVendor: Actel; Published: 25-Oct-2005; Publisher: Altium Limited; HelpURL: http://www.actel.com/documents/pa3_libguide_ug.pdf
pins: CLK (in), CLR (in), D (in), E (in), QN (out)

## DFI1E0C1
designator U?
D-Type Flip-Flop with Active Low Enable and anctive high Clear and inverted output; FPGAVendor: Actel; Published: 25-Oct-2005; Publisher: Altium Limited; HelpURL: http://www.actel.com/documents/pa3_libguide_ug.pdf
pins: CLK (in), CLR (in), D (in), E (in), QN (out)

## DFI1E0P0
designator U?
D-Type Flip-Flop with active low Enable and Preset, and inverted output; FPGAVendor: Actel; Published: 25-Oct-2005; Publisher: Altium Limited; HelpURL: http://www.actel.com/documents/pa3_libguide_ug.pdf
pins: CLK (in), D (in), E (in), PRE (in), QN (out)

## DFI1E0P1
designator U?
D-Type Flip-Flop with active low Enable, active high Preset and inverted output; FPGAVendor: Actel; Published: 25-Oct-2005; Publisher: Altium Limited; HelpURL: http://www.actel.com/documents/pa3_libguide_ug.pdf
pins: CLK (in), D (in), E (in), PRE (in), QN (out)

## DFI1E1
designator U?
D-Type Flip-Flop with active high Enable, active low Preset, and inverted output; FPGAVendor: Actel; Published: 25-Oct-2005; Publisher: Altium Limited; HelpURL: http://www.actel.com/documents/pa3_libguide_ug.pdf
pins: CLK (in), D (in), E (in), QN (out)

## DFI1E1C0
designator U?
D-Type Flip-Flop, with Enable and active low Clear and inverted output; FPGAVendor: Actel; Published: 25-Oct-2005; Publisher: Altium Limited; HelpURL: http://www.actel.com/documents/pa3_libguide_ug.pdf
pins: CLK (in), CLR (in), D (in), E (in), QN (out)

## DFI1E1C1
designator U?
D-Type Flip-Flop, with Enable and active high Clear and inverted output; FPGAVendor: Actel; Published: 25-Oct-2005; Publisher: Altium Limited; HelpURL: http://www.actel.com/documents/pa3_libguide_ug.pdf
pins: CLK (in), CLR (in), D (in), E (in), QN (out)

## DFI1E1P0
designator U?
D-Type Flip-Flop with active high Enable, active low Preset, and inverted output; FPGAVendor: Actel; Published: 25-Oct-2005; Publisher: Altium Limited; HelpURL: http://www.actel.com/documents/pa3_libguide_ug.pdf
pins: CLK (in), D (in), E (in), PRE (in), QN (out)

## DFI1E1P1
designator U?
D-Type Flip-Flop with active high Enable and Preset and inverted output; FPGAVendor: Actel; Published: 25-Oct-2005; Publisher: Altium Limited; HelpURL: http://www.actel.com/documents/pa3_libguide_ug.pdf
pins: CLK (in), D (in), E (in), PRE (in), QN (out)

## DFI1P0
designator U?
D-Type Flip-Flop with active low Preset and inverted Output; FPGAVendor: Actel; Published: 25-Oct-2005; Publisher: Altium Limited; HelpURL: http://www.actel.com/documents/pa3_libguide_ug.pdf
pins: CLK (in), D (in), PRE (in), QN (out)

## DFI1P1
designator U?
D-Type Flip-Flop with active high Preset, and inverted Output; FPGAVendor: Actel; Published: 25-Oct-2005; Publisher: Altium Limited; HelpURL: http://www.actel.com/documents/pa3_libguide_ug.pdf
pins: CLK (in), D (in), PRE (in), QN (out)

## DFI1P1C1
designator U?
Rising Edge Triggered D-Type Flip-Flop with Active High Preset and Clear and inverted Output; FPGAVendor: Actel; Published: 25-Oct-2005; Publisher: Altium Limited; HelpURL: http://www.actel.com/documents/pa3_libguide_ug.pdf
pins: CLK (in), CLR (in), D (in), PRE (in), QN (out)

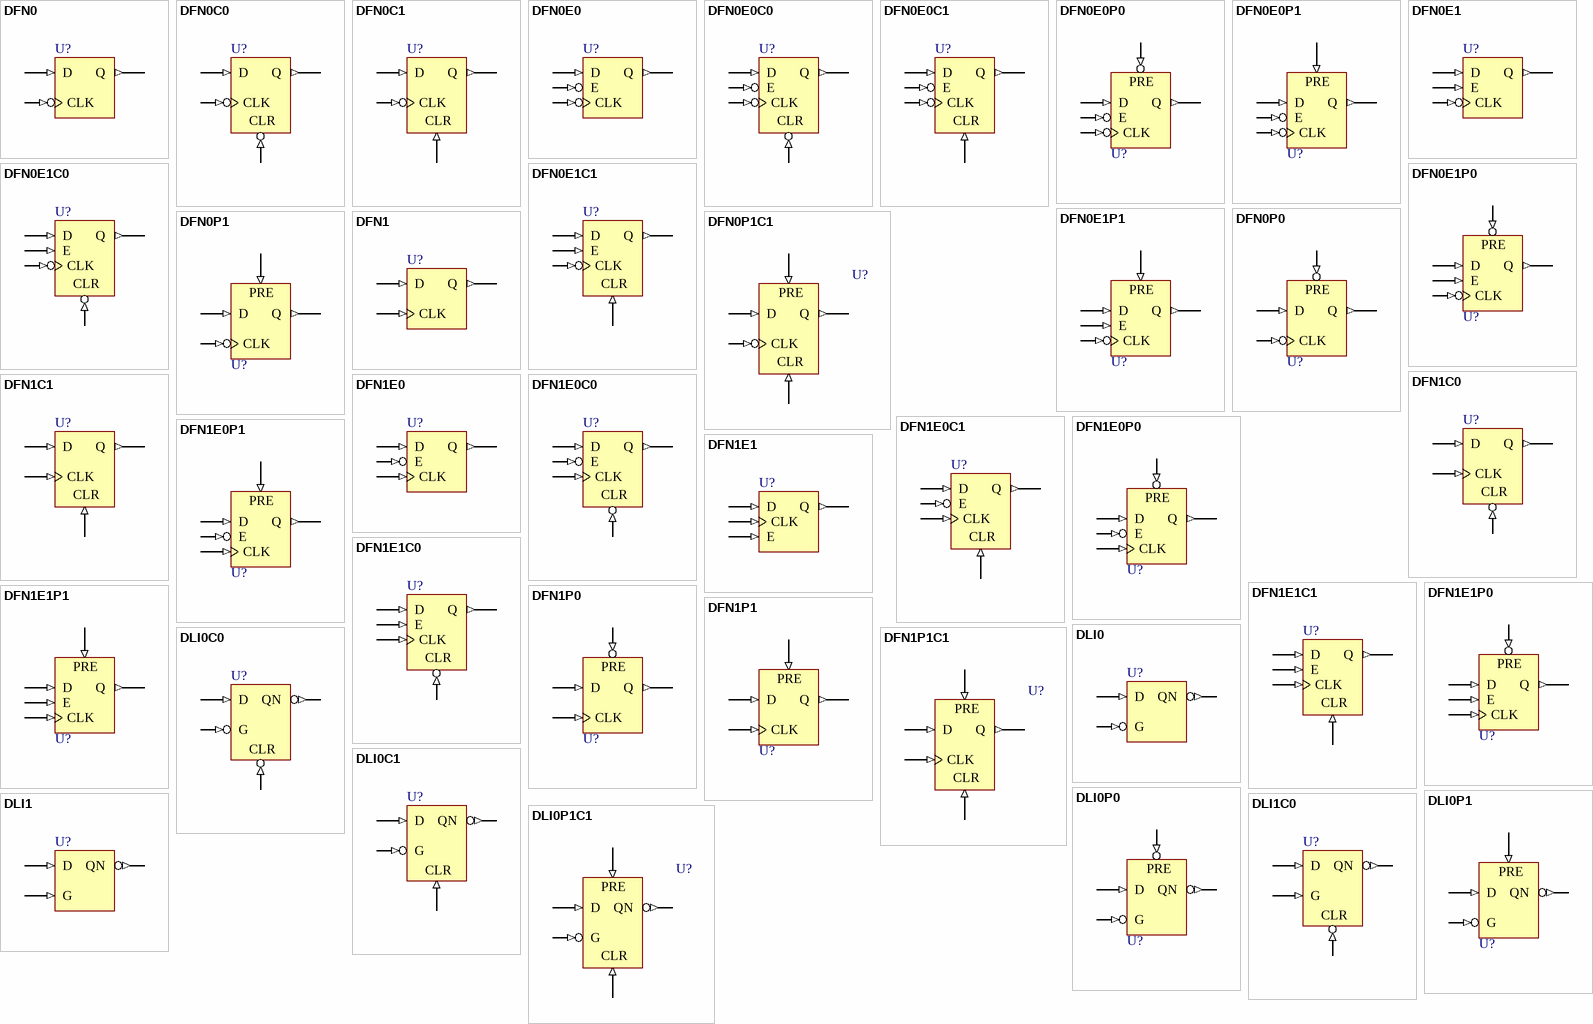
[diagram p4: symbols DFN0 to DLI1C0]

## DFN0
designator U?
D-Type Flip-Flop with active low Clock; FPGAVendor: Actel; Published: 25-Oct-2005; Publisher: Altium Limited; HelpURL: http://www.actel.com/documents/pa3_libguide_ug.pdf
pins: CLK (in), D (in), Q (out)

## DFN0C0
designator U?
D-Type Flip-Flop with active low Clear and Clock; FPGAVendor: Actel; Published: 25-Oct-2005; Publisher: Altium Limited; HelpURL: http://www.actel.com/documents/pa3_libguide_ug.pdf
pins: CLK (in), CLR (in), D (in), Q (out)

## DFN0C1
designator U?
D-Type Flip-Flop with active high Clear and active low Clock; FPGAVendor: Actel; Published: 25-Oct-2005; Publisher: Altium Limited; HelpURL: http://www.actel.com/documents/pa3_libguide_ug.pdf
pins: CLK (in), CLR (in), D (in), Q (out)

## DFN0E0
designator U?
D-Type Flip-Flop with active low Enable and Clock; FPGAVendor: Actel; Published: 25-Oct-2005; Publisher: Altium Limited; HelpURL: http://www.actel.com/documents/pa3_libguide_ug.pdf
pins: CLK (in), D (in), E (in), Q (out)

## DFN0E0C0
designator U?
D-Type Flip-Flop with active low Enable, Clear and Clock; FPGAVendor: Actel; Published: 25-Oct-2005; Publisher: Altium Limited; HelpURL: http://www.actel.com/documents/pa3_libguide_ug.pdf
pins: CLK (in), CLR (in), D (in), E (in), Q (out)

## DFN0E0C1
designator U?
D-Type Flip-Flop with active low Enable, Clock and active high Clear; FPGAVendor: Actel; Published: 25-Oct-2005; Publisher: Altium Limited; HelpURL: http://www.actel.com/documents/pa3_libguide_ug.pdf
pins: CLK (in), CLR (in), D (in), E (in), Q (out)

## DFN0E0P0
designator U?
D-Type Flip-Flop with active low Enable, Clock, and Preset; FPGAVendor: Actel; Published: 25-Oct-2005; Publisher: Altium Limited; HelpURL: http://www.actel.com/documents/pa3_libguide_ug.pdf
pins: CLK (in), D (in), E (in), PRE (in), Q (out)

## DFN0E0P1
designator U?
D-Type Flip-Flop with active low Enable and Clock, and active high Preset; FPGAVendor: Actel; Published: 25-Oct-2005; Publisher: Altium Limited; HelpURL: http://www.actel.com/documents/pa3_libguide_ug.pdf
pins: CLK (in), D (in), E (in), PRE (in), Q (out)

## DFN0E1
designator U?
D-Type Flip-Flop, with Enable, and active low Clock; FPGAVendor: Actel; Published: 25-Oct-2005; Publisher: Altium Limited; HelpURL: http://www.actel.com/documents/pa3_libguide_ug.pdf
pins: CLK (in), D (in), E (in), Q (out)

## DFN0E1C0
designator U?
D-Type Flip-Flop with Enable and active low Clear and Clock; FPGAVendor: Actel; Published: 25-Oct-2005; Publisher: Altium Limited; HelpURL: http://www.actel.com/documents/pa3_libguide_ug.pdf
pins: CLK (in), CLR (in), D (in), E (in), Q (out)

## DFN0E1C1
designator U?
D-Type Flip-Flop with Enable and active high Clear and active low Clock; FPGAVendor: Actel; Published: 25-Oct-2005; Publisher: Altium Limited; HelpURL: http://www.actel.com/documents/pa3_libguide_ug.pdf
pins: CLK (in), CLR (in), D (in), E (in), Q (out)

## DFN0E1P0
designator U?
D-Type Flip-Flop with active high Enable and active low Preset and Clock; FPGAVendor: Actel; Published: 25-Oct-2005; Publisher: Altium Limited; HelpURL: http://www.actel.com/documents/pa3_libguide_ug.pdf
pins: CLK (in), D (in), E (in), PRE (in), Q (out)

## DFN0E1P1
designator U?
D-Type Flip-Flop with active high Enable and Preset, and active low Clock; FPGAVendor: Actel; Published: 25-Oct-2005; Publisher: Altium Limited; HelpURL: http://www.actel.com/documents/pa3_libguide_ug.pdf
pins: CLK (in), D (in), E (in), PRE (in), Q (out)

## DFN0P0
designator U?
D-Type Flip-Flop with active low Preset and Clock; FPGAVendor: Actel; Published: 25-Oct-2005; Publisher: Altium Limited; HelpURL: http://www.actel.com/documents/pa3_libguide_ug.pdf
pins: CLK (in), D (in), PRE (in), Q (out)

## DFN0P1
designator U?
D-Type Flip-Flop with active high Preset, and active low Clock; FPGAVendor: Actel; Published: 25-Oct-2005; Publisher: Altium Limited; HelpURL: http://www.actel.com/documents/pa3_libguide_ug.pdf
pins: CLK (in), D (in), PRE (in), Q (out)

## DFN0P1C1
designator U?
Falling Edge Triggered D-Type Flip-Flop with Active High Preset and Clear; FPGAVendor: Actel; Published: 25-Oct-2005; Publisher: Altium Limited; HelpURL: http://www.actel.com/documents/pa3_libguide_ug.pdf
pins: CLK (in), CLR (in), D (in), PRE (in), Q (out)

## DFN1
designator U?
D-Type Flip-Flop; FPGAVendor: Actel; Published: 25-Oct-2005; Publisher: Altium Limited; HelpURL: http://www.actel.com/documents/pa3_libguide_ug.pdf
pins: CLK (in), D (in), Q (out)

## DFN1C0
designator U?
D-Type Flip-Flop with active low Clear; FPGAVendor: Actel; Published: 25-Oct-2005; Publisher: Altium Limited; HelpURL: http://www.actel.com/documents/pa3_libguide_ug.pdf
pins: CLK (in), CLR (in), D (in), Q (out)

## DFN1C1
designator U?
D-Type Flip-Flop with active high Clear; FPGAVendor: Actel; Published: 25-Oct-2005; Publisher: Altium Limited; HelpURL: http://www.actel.com/documents/pa3_libguide_ug.pdf
pins: CLK (in), CLR (in), D (in), Q (out)

## DFN1E0
designator U?
D-Type Flip-Flop with active low Enable; FPGAVendor: Actel; Published: 25-Oct-2005; Publisher: Altium Limited; HelpURL: http://www.actel.com/documents/pa3_libguide_ug.pdf
pins: CLK (in), D (in), E (in), Q (out)

## DFN1E0C0
designator U?
D-Type Flip-Flop with Active Low Enable and Clear; FPGAVendor: Actel; Published: 25-Oct-2005; Publisher: Altium Limited; HelpURL: http://www.actel.com/documents/pa3_libguide_ug.pdf
pins: CLK (in), CLR (in), D (in), E (in), Q (out)

## DFN1E0C1
designator U?
D-Type Flip-Flop with Active Low Enable and active high Clear; FPGAVendor: Actel; Published: 25-Oct-2005; Publisher: Altium Limited; HelpURL: http://www.actel.com/documents/pa3_libguide_ug.pdf
pins: CLK (in), CLR (in), D (in), E (in), Q (out)

## DFN1E0P0
designator U?
D-Type Flip-Flop with active low Enable and Preset; FPGAVendor: Actel; Published: 25-Oct-2005; Publisher: Altium Limited; HelpURL: http://www.actel.com/documents/pa3_libguide_ug.pdf
pins: CLK (in), D (in), E (in), PRE (in), Q (out)

## DFN1E0P1
designator U?
D-Type Flip-Flop with active low Enable, and active high Preset; FPGAVendor: Actel; Published: 25-Oct-2005; Publisher: Altium Limited; HelpURL: http://www.actel.com/documents/pa3_libguide_ug.pdf
pins: CLK (in), D (in), E (in), PRE (in), Q (out)

## DFN1E1
designator U?
D-Type Flip-Flop with active high Enable; FPGAVendor: Actel; Published: 25-Oct-2005; Publisher: Altium Limited; HelpURL: http://www.actel.com/documents/pa3_libguide_ug.pdf
pins: CLK (in), D (in), E (in), Q (out)

## DFN1E1C0
designator U?
D-Type Flip-Flop, with Enable and active low Clear; FPGAVendor: Actel; Published: 25-Oct-2005; Publisher: Altium Limited; HelpURL: http://www.actel.com/documents/pa3_libguide_ug.pdf
pins: CLK (in), CLR (in), D (in), E (in), Q (out)

## DFN1E1C1
designator U?
D-Type Flip-Flop, with Enable and active high Clear; FPGAVendor: Actel; Published: 25-Oct-2005; Publisher: Altium Limited; HelpURL: http://www.actel.com/documents/pa3_libguide_ug.pdf
pins: CLK (in), CLR (in), D (in), E (in), Q (out)

## DFN1E1P0
designator U?
D-Type Flip-Flop with active high Enable and active low Preset; FPGAVendor: Actel; Published: 25-Oct-2005; Publisher: Altium Limited; HelpURL: http://www.actel.com/documents/pa3_libguide_ug.pdf
pins: CLK (in), D (in), E (in), PRE (in), Q (out)

## DFN1E1P1
designator U?
D-Type Flip-Flop with active high Enable and Preset; FPGAVendor: Actel; Published: 25-Oct-2005; Publisher: Altium Limited; HelpURL: http://www.actel.com/documents/pa3_libguide_ug.pdf
pins: CLK (in), D (in), E (in), PRE (in), Q (out)

## DFN1P0
designator U?
D-Type Flip-Flop with active low Preset; FPGAVendor: Actel; Published: 25-Oct-2005; Publisher: Altium Limited; HelpURL: http://www.actel.com/documents/pa3_libguide_ug.pdf
pins: CLK (in), D (in), PRE (in), Q (out)

## DFN1P1
designator U?
D-Type Flip-Flop with active high Preset; FPGAVendor: Actel; Published: 25-Oct-2005; Publisher: Altium Limited; HelpURL: http://www.actel.com/documents/pa3_libguide_ug.pdf
pins: CLK (in), D (in), PRE (in), Q (out)

## DFN1P1C1
designator U?
Rising Edge Triggered D-Type Flip-Flop with Active High Preset and Clear; FPGAVendor: Actel; Published: 25-Oct-2005; Publisher: Altium Limited; HelpURL: http://www.actel.com/documents/pa3_libguide_ug.pdf
pins: CLK (in), CLR (in), D (in), PRE (in), Q (out)

## DLI0
designator U?
Data Latch, with active low Clock and inverted Output; FPGAVendor: Actel; Published: 25-Oct-2005; Publisher: Altium Limited; HelpURL: http://www.actel.com/documents/pa3_libguide_ug.pdf
pins: D (in), G (in), QN (out)

## DLI0C0
designator U?
Data Latch with active low Clear, Clock, and inverted Output; FPGAVendor: Actel; Published: 25-Oct-2005; Publisher: Altium Limited; HelpURL: http://www.actel.com/documents/pa3_libguide_ug.pdf
pins: CLR (in), D (in), G (in), QN (out)

## DLI0C1
designator U?
Data Latch with active high Clear and active low Clock and inverted Output; FPGAVendor: Actel; Published: 25-Oct-2005; Publisher: Altium Limited; HelpURL: http://www.actel.com/documents/pa3_libguide_ug.pdf
pins: CLR (in), D (in), G (in), QN (out)

## DLI0P0
designator U?
Data Latch with active low Preset, Clock, and inverted Output; FPGAVendor: Actel; Published: 25-Oct-2005; Publisher: Altium Limited; HelpURL: http://www.actel.com/documents/pa3_libguide_ug.pdf
pins: D (in), G (in), PRE (in), QN (out)

## DLI0P1
designator U?
Active Low Latch with Active High Preset and inverted Output; FPGAVendor: Actel; Published: 25-Oct-2005; Publisher: Altium Limited; HelpURL: http://www.actel.com/documents/pa3_libguide_ug.pdf
pins: D (in), G (in), PRE (in), QN (out)

## DLI0P1C1
designator U?
Active Low Latch with Active High Preset and Clear and inverted Output; FPGAVendor: Actel; Published: 25-Oct-2005; Publisher: Altium Limited; HelpURL: http://www.actel.com/documents/pa3_libguide_ug.pdf
pins: CLR (in), D (in), G (in), PRE (in), QN (out)

## DLI1
designator U?
Data Latch with inverted Output; FPGAVendor: Actel; Published: 25-Oct-2005; Publisher: Altium Limited; HelpURL: http://www.actel.com/documents/pa3_libguide_ug.pdf
pins: D (in), G (in), QN (out)

## DLI1C0
designator U?
Data Latch with active low Clear and inverted output; FPGAVendor: Actel; Published: 25-Oct-2005; Publisher: Altium Limited; HelpURL: http://www.actel.com/documents/pa3_libguide_ug.pdf
pins: CLR (in), D (in), G (in), QN (out)

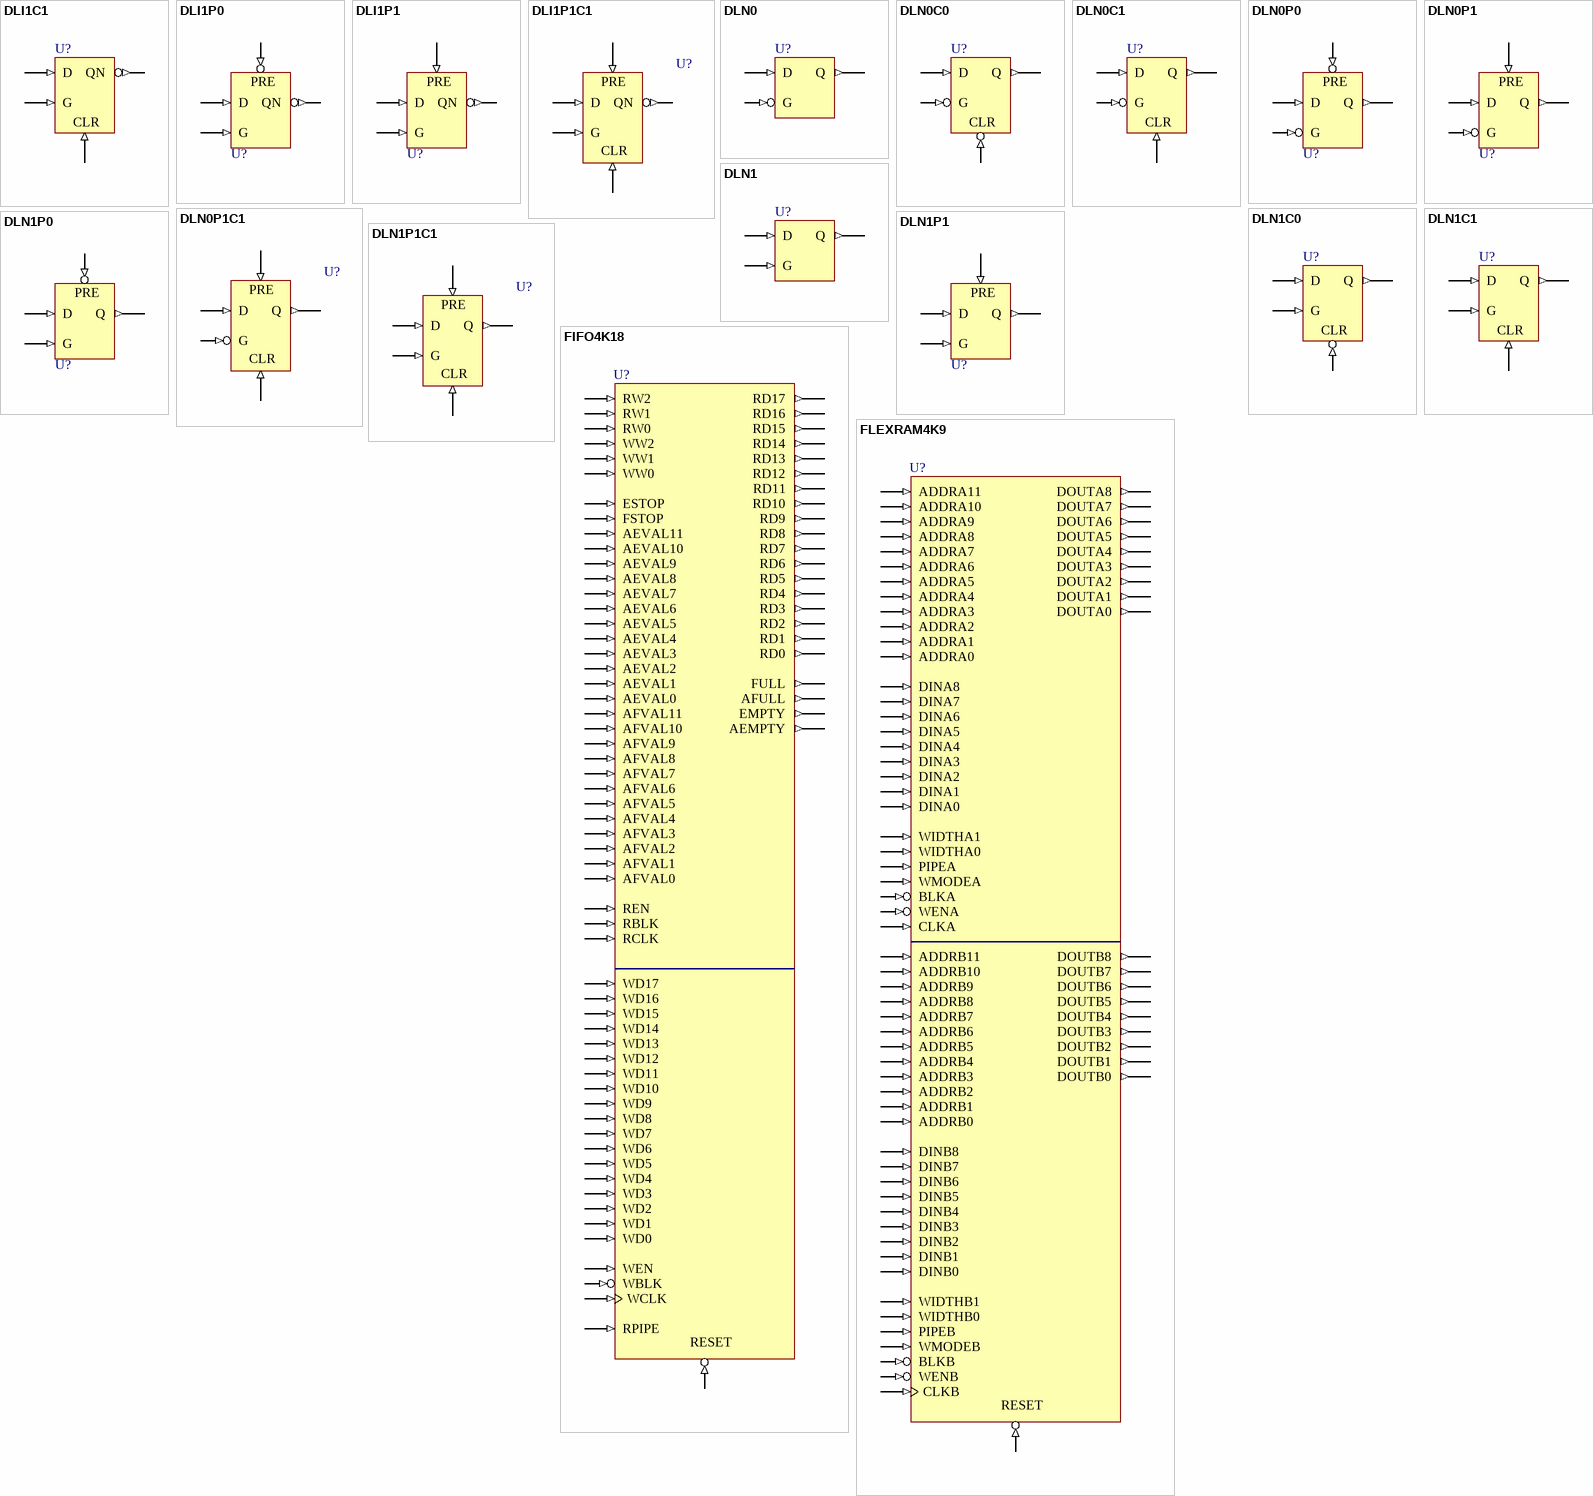
[diagram p5: symbols DLI1C1 to FLEXRAM4K9]

## DLI1C1
designator U?
Data Latch with active high Clear and inverted Output; FPGAVendor: Actel; Published: 25-Oct-2005; Publisher: Altium Limited; HelpURL: http://www.actel.com/documents/pa3_libguide_ug.pdf
pins: CLR (in), D (in), G (in), QN (out)

## DLI1P0
designator U?
Data Latch with active low Preset and Output, and active high Clock; FPGAVendor: Actel; Published: 25-Oct-2005; Publisher: Altium Limited; HelpURL: http://www.actel.com/documents/pa3_libguide_ug.pdf
pins: D (in), G (in), PRE (in), QN (out)

## DLI1P1
designator U?
Active High Latch with Active High Preset and inverted Output; FPGAVendor: Actel; Published: 25-Oct-2005; Publisher: Altium Limited; HelpURL: http://www.actel.com/documents/pa3_libguide_ug.pdf
pins: D (in), G (in), PRE (in), QN (out)

## DLI1P1C1
designator U?
Active High Latch with Active High Preset and Clear and inverted Output; FPGAVendor: Actel; Published: 25-Oct-2005; Publisher: Altium Limited; HelpURL: http://www.actel.com/documents/pa3_libguide_ug.pdf
pins: CLR (in), D (in), G (in), PRE (in), QN (out)